# Altium footprint library distribution amp.pcblib: 8 footprints
Each footprint in its own frame and in the unit in brackets; x right, y up, seen from the top. Pads: shape width x height; smd on the part's side, far side on the other; paste and mask are expansions set on the pad; w line width, h text height; cw(c..) or ccw(c..) is an arc to the next point about the centre after c.
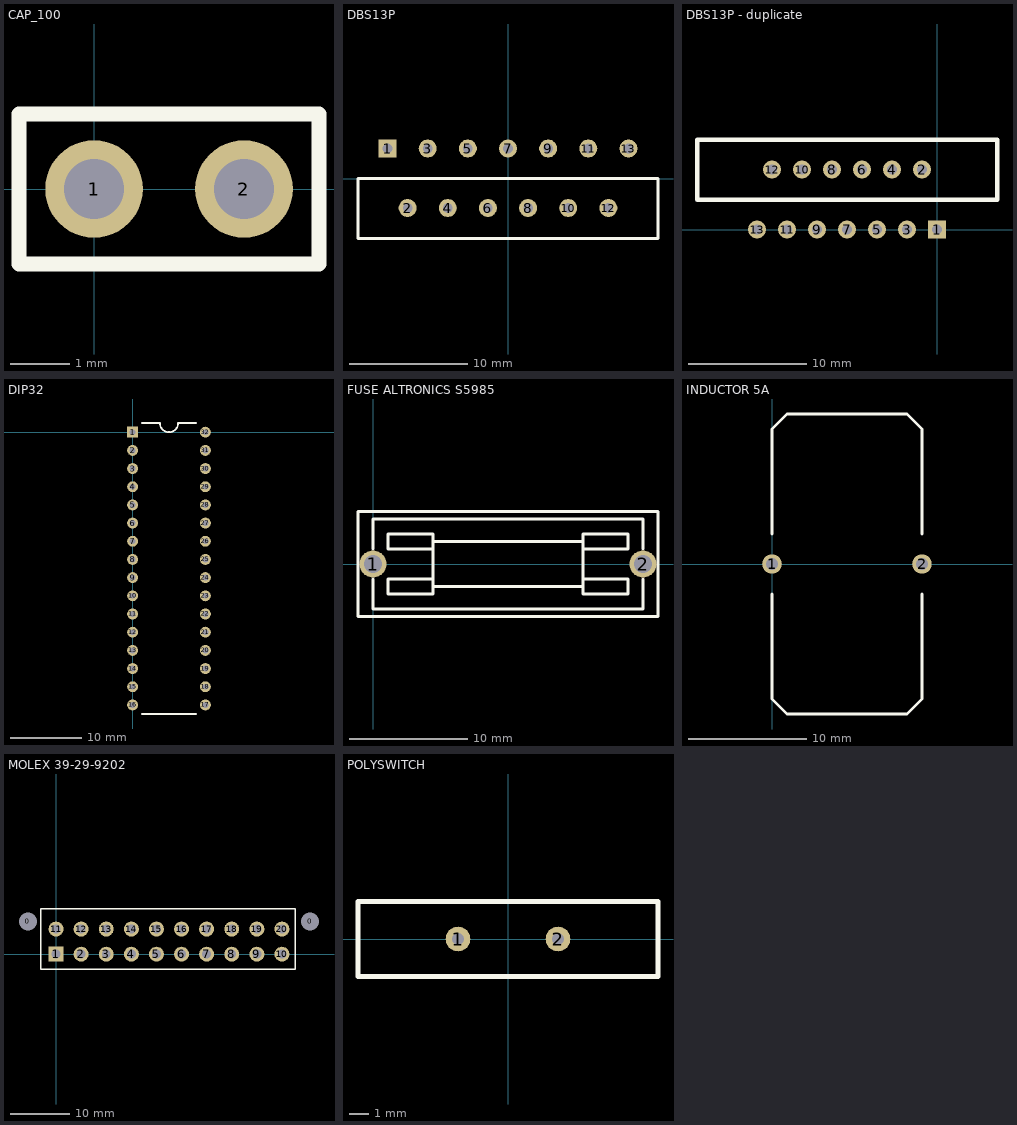
[diagram p0: the footprints below, top view; thin cyan lines are the x and y axes]

## CAP_100 [mil]
pads (2):
  round 65 hole 40: 1(0,0) 2(100,0)
Top Overlay:
  lines w10: -50,-50 150,-50 150,0 150,50 -50,50 -50,0 -50,-50

## DBS13P [mil] "DBS13P"
pads (13):
  rect 60x60 hole 32: 1(-401.57,100)
  round 60 hole 32: 2(-334.65,-98.43) 3(-267.72,100) 4(-200.79,-98.43) 5(-133.86,100) 6(-66.93,-98.43) 7(0,100) 8(66.93,-98.43) 9(133.86,100) 10(200.79,-98.43) 11(267.72,100) 12(334.65,-98.43) 13(401.57,100)
Top Overlay:
  lines w10: -500,-200 500,-200 500,0 -500,0 -500,-200

## DBS13P - duplicate [mil] "DBS13P"
height 39.37
pads (13):
  rect 60x60 hole 32: 1(0,0)
  round 60 hole 32: 2(-50,200) 3(-100,0) 4(-150,200) 5(-200,0) 6(-250,200) 7(-300,0) 8(-350,200) 9(-400,0) 10(-450,200) 11(-500,0) 12(-550,200) 13(-600,0)
Top Overlay:
  lines w15: -800,100 200,100 200,300 -800,300 -800,100

## DIP32 [mil] "DIP32"
pads (32):
  rect 60x60 hole 32: 1(0,0)
  round 60 hole 32: 2(0,-100) 3(0,-200) 4(0,-300) 5(0,-400) 6(0,-500) 7(0,-600) 8(0,-700) 9(0,-800) 10(0,-900) 11(0,-1000) 12(0,-1100) 13(0,-1200) 14(0,-1300) 15(0,-1400) 16(0,-1500) 17(400,-1500) 18(400,-1400) 19(400,-1300) 20(400,-1200) 21(400,-1100) 22(400,-1000) 23(400,-900) 24(400,-800) 25(400,-700) 26(400,-600) 27(400,-500) 28(400,-400) 29(400,-300) 30(400,-200) 31(400,-100) 32(400,0)
Top Overlay:
  lines w10: 50,-1550 350,-1550 ; 50,50 150,50 ccw(c200,50) 250,50 350,50

## FUSE ALTRONICS S5985 [mil]
pads (2):
  round 90 hole 60: 1(0,0) 2(900,0)
Top Overlay:
  lines w10: 0,-50 0,-150 900,-150 900,-50 ; 0,50 0,150 900,150 900,50 ; 200,-75 675,-75 700,-75 ; 200,-50 50,-50 50,-100 200,-100 200,100 ; 700,-50 850,-50 850,-100 700,-100 700,100 850,100 850,50 700,50 ; 700,75 200,75 ; 200,75 200,50 50,50 50,100 200,100 ; 200,75 200,100 ; -50,-175 950,-175 950,175 -50,175 -50,0 -50,-175

## INDUCTOR 5A [mil] "ALTRONICS L6622"
pads (2):
  round 65 hole 40: 1(0,0) 2(500,0)
Top Overlay:
  lines w10: 0,-100 0,-450 50,-500 450,-500 500,-450 500,-100 ; 0,100 0,450 50,500 450,500 500,450 500,100

## MOLEX 39-29-9202 [mm] "ATX PC POWER SOCKET"
pads (22):
  round 1.5 hole 3 unplated: 0(-4.7,5.5) 0(42.5,5.5)
  rect 2.5x2.5 hole 1.5: 1(0,0)
  round 2.5 hole 1.5: 2(4.2,0) 3(8.4,0) 4(12.6,0) 5(16.8,0) 6(21,0) 7(25.2,0) 8(29.4,0) 9(33.6,0) 10(37.8,0) 11(0,4.2) 12(4.2,4.2) 13(8.4,4.2) 14(12.6,4.2) 15(16.8,4.2) 16(21,4.2) 17(25.2,4.2) 18(29.4,4.2) 19(33.6,4.2) 20(37.8,4.2)
Top Overlay:
  lines w0.254: -2.54,-2.54 -2.54,7.62 0,7.62 35.56,7.62 40.005,7.62 40.005,-2.54 35.56,-2.54 0,-2.54 -2.54,-2.54

## POLYSWITCH [mm] "Element 14 RUEF400 (4A)"
pads (2):
  round 1.25 hole 0.6: 1(-2.54,0) 2(2.54,0)
Top Overlay:
  lines w0.254: -7.62,-1.905 0,-1.905 7.62,-1.905 ; -7.62,-1.905 7.62,-1.905 ; -7.62,-1.905 -7.62,1.905 0,1.905 7.62,1.905 7.62,-1.905